# Altium schematic symbol library UWRT_Schematic_Library_2019.SchLib: 73 symbols
Pins are listed as number, name and electrical type; pins without a type are passive.

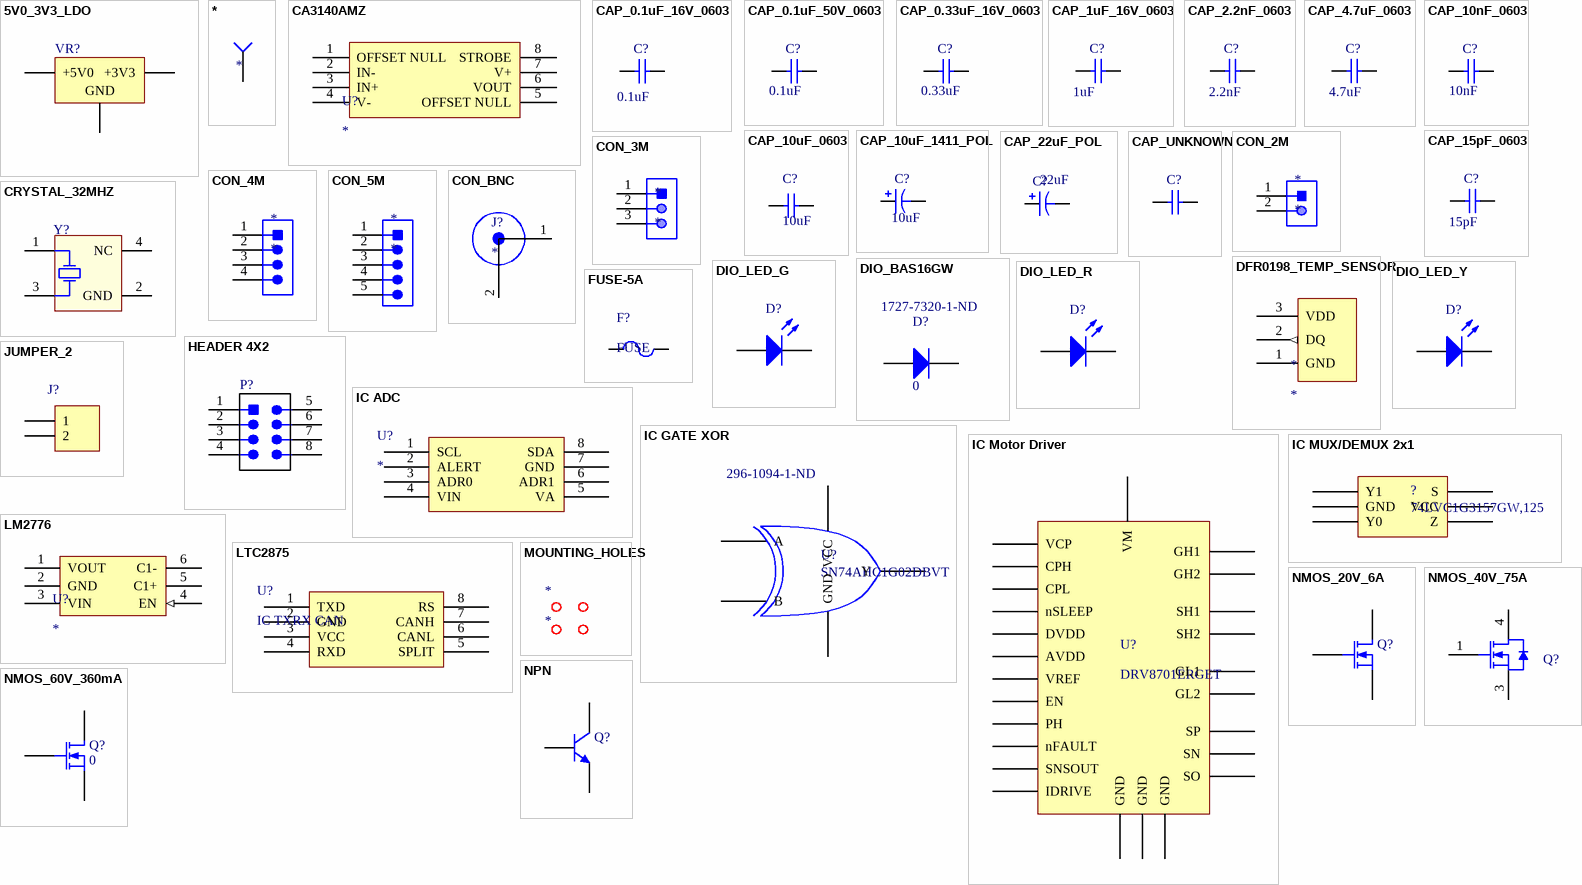
[diagram p0: symbols 5V0_3V3_LDO to NPN]

## 5V0_3V3_LDO
designator VR?
IC REG LINEAR 3.3V 1A DPAK; MPN: NCP1117DT33T5G; Manufacturer: ON Semiconductor; Current Output: 1A; Digikey Part Number: NCP1117DT33T5GOSCT-ND
footprint VOLTAGE_REGULATOR (DPAK, 3-Leads, Body 6.095x6.54mm, Pitch 4.57mm)
footprint D2PAK_L (D2-PAK, 4-Leads, Body 8.8x10.4mm, Pitch 2.54mm, Lead Span 15.1mm, IPC High Density)
footprint D2PAK_M (D2-PAK, 4-Leads, Body 8.8x10.4mm, Pitch 2.54mm, Lead Span 15.1mm, IPC Low Density)
pins: 1 GND, 2 +3V3, 3 +5V0

## *
designator TP?
TESTPOINT_SMD; Part Number (MPN): *
footprint TESTPOINT
footprint TESTPOINT_LOOP
pins: 1 =value

## CA3140AMZ
designator U?
4.5MHz, BiMOS Operational Amplifier with MOSFET Input/Bipolar Output; MPN: CA3140AMZ; Manufacturer: Renesas Electronics America Inc.; Digikey Part Number: CA3140AMZ-ND
footprint CA3140AMZ
pins: 1 OFFSET NULL, 2 IN-, 3 IN+, 4 V-, 5 OFFSET NULL, 6 VOUT, 7 V+, 8 STROBE

## CAP_0.1uF_16V_0603
designator C?  value 0.1uF
CAP CER 0.1UF 16V X7R 0603; MPN: CC0603KRX7R7BB104; Manufacturer: Yageo; Dimensions: 0.063" L x 0.031" W (1.60mm x 0.80mm); Package: 0603 (1608 Metric); Temperature Coefficient: X7R; Voltage Rating: 16V; Digikey Part Number: 311-1088-1-ND
footprint CAPC0603(1608)55_N (Chip Capacitor, Body 1.6x0.8mm, Height 0.55mm, IPC Medium Density)
simulation model CAP (Capacitor)
signal-integrity model Cap
pins: 1, 2

## CAP_0.1uF_50V_0603
designator C?  value 0.1uF
CAP CER 0.1UF 50V X7R 0603; MPN: CC0603KRX7R9BB104; Manufacturer: Yageo; Dimensions: 0.063" L x 0.031" W (1.60mm x 0.80mm); Package: 0603 (1608 Metric); Temperature Coefficient: X7R; Voltage Rating: 50V; Digikey Part Number: 311-1344-1-ND
footprint CAPC0603(1608)55_N (Chip Capacitor, Body 1.6x0.8mm, Height 0.55mm, IPC Medium Density)
simulation model CAP (Capacitor)
signal-integrity model Cap
pins: 1, 2

## CAP_0.33uF_16V_0603
designator C?  value 0.33uF
CAP CER 0.33UF 16V X7R 0603; MPN: GCM188R71C334KA37D; Manufacturer: Murata Electronics North America; Dimensions: 0.063" L x 0.031" W (1.60mm x 0.80mm); Package: 0603 (1608 Metric); Temperature Coefficient: X7R; Voltage Rating: 16V; Digikey Part Number: 490-6050-1-ND
footprint CAPC0603(1608)55_N (Chip Capacitor, Body 1.6x0.8mm, Height 0.55mm, IPC Medium Density)
simulation model CAP (Capacitor)
signal-integrity model Cap
pins: 1, 2

## CAP_1uF_16V_0603
designator C?  value 1uF
CAP CER 1UF 16V Y5V 0603; MPN: CC0603ZRY5V7BB105; Manufacturer: Yageo; Dimensions: 0.063" L x 0.031" W (1.60mm x 0.80mm); Package: 0603 (1608 Metric); Temperature Coefficient: Y5V; Voltage Rating: 16V; Digikey Part Number: 311-1372-1-ND
simulation model CAP (Capacitor)
signal-integrity model Cap
footprint CAPC0603(1608)55_N (Chip Capacitor, Body 1.6x0.8mm, Height 0.55mm, IPC Medium Density)
pins: 1, 2

## CAP_2.2nF_0603
designator C?  value 2.2nF
CAP CER 2.2NF 25V X7R 0603; MPN: CC0603KRX7R8BB222; Manufacturer: Yageo; Dimensions: 0.063" L x 0.031" W (1.60mm x 0.80mm); Package: 0603 (1608 Metric); Temperature Coefficient: X7R; Voltage Rating: 25V; Digikey Part Number: 311-3653-1-ND
footprint CAPC0603(1608)55_N (Chip Capacitor, Body 1.6x0.8mm, Height 0.55mm, IPC Medium Density)
simulation model CAP (Capacitor)
signal-integrity model Cap
pins: 1, 2

## CAP_4.7uF_0603
designator C?  value 4.7uF
CAP CER 4.7UF 6.3V X5R 0603; MPN: CC0603KRX5R5BB475; Manufacturer: Yageo; Dimensions: 0.063" L x 0.031" W (1.60mm x 0.80mm); Package: 0603 (1608 Metric); Temperature Coefficient: X5R; Voltage Rating: 6.3V; Digikey Part Number: 311-1521-1-ND
footprint CAPC0603(1608)55_N (Chip Capacitor, Body 1.6x0.8mm, Height 0.55mm, IPC Medium Density)
simulation model CAP (Capacitor)
signal-integrity model Cap
pins: 1, 2

## CAP_10nF_0603
designator C?  value 10nF
CAP CER 10000PF 16V X7R 0603; MPN: CC0603KRX7R7BB103; Manufacturer: Yageo; Dimensions: 0.063" L x 0.031" W (1.60mm x 0.80mm); Package: 0603 (1608 Metric); Temperature Coefficient: X7R; Voltage Rating: 16V; Digikey Part Number: 311-3369-1-ND
footprint CAPC0603(1608)55_N (Chip Capacitor, Body 1.6x0.8mm, Height 0.55mm, IPC Medium Density)
simulation model CAP (Capacitor)
signal-integrity model Cap
pins: 1, 2

## CAP_10uF_0603
designator C?, comment 10uF
CAP CER 10UF 10V X5R 0603; MPN: CC0603MRX5R6BB106; Manufacturer: Yageo; Dimensions: 0.063" L x 0.031" W (1.60mm x 0.80mm); Package: 0603 (1608 Metric); Voltage Rating: 10V; Digikey Part Number: 311-1817-1-ND; Value: 10uF
simulation model CAP (Capacitor)
signal-integrity model Cap
footprint CAPC0603(1608)55_N (Chip Capacitor, Body 1.6x0.8mm, Height 0.55mm, IPC Medium Density)
pins: 1, 2

## CAP_10uF_1411_POL
designator C?  value 10uF
CAP TANT 10UF 20% 10V 1411; MPN: F971A106MBAHT3; Manufacturer: AVX Corporation; Dimensions: 0.063" L x 0.031" W (1.60mm x 0.80mm); Package: 1411 (3528 Metric); Voltage Rating: 10V; Digikey Part Number: 478-12047-1-ND
simulation model CAP (Capacitor)
signal-integrity model Cap
footprint AVX-CAPC3528_V (SMT Capacitor, 2 Leads, Body 3.5x2.8mm)
pins: 1, 2

## CAP_15pF_0603
designator C?  value 15pF
CAP CER 15PF 250V NPO 0603; MPN: AC0603JRNPOYBN150; Manufacturer: Yageo; Temperature Coefficient: NP0; Dimensions: 0.063" L x 0.031" W (1.60mm x 0.80mm); Package: 0603 (1608 Metric); Voltage Rating: 250v; Digikey Part Number: 311-3282-1-ND
footprint CAPC0603(1608)55_N (Chip Capacitor, Body 1.6x0.8mm, Height 0.55mm, IPC Medium Density)
simulation model CAP (Capacitor)
signal-integrity model Cap
pins: 1, 2

## CAP_22uF_POL
designator C?  value 22uF
CAP ALUM 22UF 20% 50V RADIAL; Manufacturer: Wurth Electronics Inc.; MPN: 860020672011; Voltage Rating: 50V; Tolerance: 20%; Digikey Part Number: 732-8857-1-ND
footprint CAPR-2/4h6.8
simulation model CAP (Capacitor)
signal-integrity model Cap Pol
pins: 1, 2
1 alternate drawing of the same symbol

## CAP_UNKNOWN
designator C?
footprint CAPC0603(1608)55_N (Chip Capacitor, Body 1.6x0.8mm, Height 0.55mm, IPC Medium Density)
simulation model CAP (Capacitor)
signal-integrity model Cap
pins: 1, 2

## CON_2M
designator *
footprint JST-B2B-PHSK
footprint JST-B2B-SM4-TB
footprint JST-S2B-PHSK
footprint JST-S2B-SM4-TB
footprint HDR1X2 (Connector; Header; 2 Position)
pins: 1, 2

## CON_3M
designator *
footprint JST-B3B-SM4-TB
footprint JST-B3B-PHSK
footprint JST-S3B-SM4-TB
footprint JST-S3B-PHSK
pins: 1, 2, 3

## CON_4M
designator *
footprint JST-B4B-PHSK
footprint JST-B4B-SM4-TB
footprint JST-S4B-PHSK
footprint JST-S4B-SM4-TB
pins: 1, 2, 3, 4

## CON_5M
designator *
footprint JST-B5B-PHSK
footprint JST-B5B-SM4-TB
footprint JST-S5B-PHSK
footprint JST-S5B-SM4-TB
pins: 1, 2, 3, 4, 5

## CON_BNC
designator J?
Manufacturer: TE Connectivity; MPN: 1-1337543-0; Digikey Part Number: A97553-ND
footprint 1-1337543-0
pins: 1, 2

## CRYSTAL_32MHZ
designator Y?
CRYSTAL 32MHZ 8PF SMD; MPN: CX2520DB32000D0GPSC1; Manufacturer: Kyocera International Inc. Electronic Components; Package: 4-SMD, No Lead; Dimensions: 0.098" L x 0.079" W (2.50mm x 2.00mm); Digikey Part Number: 1253-1730-1-ND
footprint AVX-CX2520DB32000D0GEJZ1-4_V (Hand Drawn, 4-Leads,Body 2.5x2mm)
simulation model XTAL (Spice Subcircuit)
pins: 1 HOT, 2 GND (power), 3 HOT, 4 NC

## DFR0198_TEMP_SENSOR
designator *
pins: 1 GND (power), 2 DQ (out), 3 VDD (power)

## DIO_BAS16GW
designator D?, comment 0  Supplier Part Number 1: 1727-7320-1-ND
ESD PROTECTION DIODE; MPN: BAS16GW; Manufacturer: Nexperia; Package: SOD-123; ComponentLink1Description: Datasheet; ComponentLink1URL: https://assets.nexperia.com/documents/data-sheet/BAS16GW.pdf; Digikey Part Number: 1727-7320-1-ND; Supplier 1: Digi-Key
simulation model LED1 (Diode)
footprint DIODSOD-123 (SOD-123, 2-Leads, Body 2.85x1.7mm (max), Pitch 3.7mm)
pins: 1 A, 2 K

## DIO_LED_G
designator D?
LED GREEN DIFFUSED 0805 SMD; MPN: LG R971-KN-1; Manufacturer: OSRAM; Forward Voltage Drop: 2.2V; Package: 0805 (2012 Metric); Digikey Part Number: 475-1410-1-ND
footprint LED_0805_LINE (SMD, 2-Leads, Body 2x1.25mm)
simulation model LED1 (Diode)
pins: 1 A, 2 K

## DIO_LED_R
designator D?
LED RED DIFFUSED 0805 SMD; MPN: LS R976-NR-1; Manufacturer: OSRAM; Forward Voltage Drop: 2V; Package: 0805 (2012 Metric); Digikey Part Number: 475-1278-1-ND
footprint LED_0805_LINE (SMD, 2-Leads, Body 2x1.25mm)
simulation model LED1 (Diode)
pins: 1 A, 2 K

## DIO_LED_Y
designator D?
LED YELLOW DIFFUSED 0805 SMD; MPN: LY R976-PS-36; Manufacturer: OSRAM; Forward Voltage Drop: 2.2V; Package: 0805 (2012 Metric); Digikey Part Number: 475-2560-1-ND
footprint LED_0805_LINE (SMD, 2-Leads, Body 2x1.25mm)
simulation model LED1 (Diode)
pins: 1 A, 2 K

## FUSE-5A
designator F?, comment FUSE
FUSE HOLDER RADIAL 250V 6.3A PCB
footprint FUSE (FUSE HOLDER RADIAL 250V 6.3A PCB)
pins: 1, 2

## HEADER 4X2
designator P?
Header, 4-Pin Dual row; MPN: GRPB042VWVN-RC; Manufacturer: Sullins Connector Solutions; Digikey Part Number: S9015E-04-ND
signal-integrity model Connector
footprint HEADER_2X4
pins: 1 VCC, 2, 3, 4, 5 GND, 6 2, 7 3, 8 4

## IC ADC
designator U?
IC ADC 8BIT I2C 188KSPS; Manufacturer: Texas Instruments; MPN: ADC081C021CIMM/NOPB; Package: 8-TSSOP, 8-MSOP (0.118", 3.00mm Width); Digikey Part Number: ADC081C021CIMM/NOPBCT-ND
pins: 1 SCL, 2 ALERT, 3 ADR0, 4 VIN, 5 VA, 6 ADR1, 7 GND, 8 SDA

## IC GATE XOR
designator U?, comment SN74AHC1G02DBVT  Supplier Part Number 1: 296-1094-1-ND
Manufacturer: Texas Instruments; Max Supply Voltage: 5.5V; Min Supply Voltage: 2V; Logic Function: NOR; Quiescent Current: 1uA; Propagation Delay: 7.5ns; Number of Outputs: 1; Number of Inputs: 2; Low Level Output Current: 8mA; High Level Output Current: -8mA; Turn-On Delay Time: 8.5ns; Manufacturer Part Number: SN74AHC1G02DBVT; Mount: Surface Mount; Case/Package: SOT-23; Number of Pins: 5; Weight: 0.000557oz; Min Operating Temperature: -40°C; Max Operating Temperature: 125°C; Packaging: Tape and Reel; Package Quantity: 250; Number of Gates: 1; Number of Input Lines: 2; Number of Output Lines: 1; Number of Circuits: 1; Number of Elements: 1; Number of Bits: 1; Output Current: 8mA; Max Output Current: 8mA; Termination: SMD/SMT; Radiation Hardening: No; Lead Free: Lead Free; REACH SVHC: No SVHC; ComponentLink1URL: http://www.ti.com/lit/ds/symlink/sn74ahc1g02.pdf?src-supplier=Digi-Key; ComponentLink1Description: http://www.ti.com/lit/ds/symlink/sn74ahc1g02.pdf?src-supplier=Digi-Key; ComponentLink2URL: http://focus.ti.com/lit/ds/symlink/sn74ahc1g02.pdf?src-supplier=Avnet+Europe; ComponentLink2Description: http://focus.ti.com/lit/ds/symlink/sn74ahc1g02.pdf?src-supplier=Avnet+Europe; ComponentLink3URL: http://www.farnell.com/datasheets/1786933.pdf?src-supplier=Element14; ComponentLink3Description: http://www.farnell.com/datasheets/1786933.pdf?src-supplier=Element14; Supplier 1: Digi-Key
footprint SOT23-5
pins: 1 A, 2 B, 3 GND, 4 Y, 5 VCC

## IC Motor Driver
designator U?, comment DRV8701ERGET
Manufacturer: Texas Instruments; Interface: Parallel; Supplier 1: Digi-Key; Manufacturer Part Number: DRV8701ERGET; Stock 1: 17098; Pricing 1: 1=2.83, 10=2.541, 100=2.0425 (USD); Mount: Surface Mount; Case/Package: VQFN; Min Operating Temperature: -40°C; Max Operating Temperature: 125°C; Packaging: Tape and Reel; Lead Free: Lead Free; Supplier Part Number 1: 296-42155-1-ND
footprint VFQFPN-24_N (QFN, 24-Leads, Body 4x4mm, Pitch 0.5mm, Thermal Pad 2.5x2.5mm, IPC Medium Density)
pins: 1 VM, 2 VCP, 3 CPH, 4 CPL, 5 GND, 6 VREF, 7 AVDD, 8 DVDD, 9 nFAULT, 10 SNSOUT, 11 SO, 12 IDRIVE, 13 nSLEEP, 14 EN, 15 PH, 16 GND, 17 GH1, 18 SH1, 19 GL1, 20 SN, 21 SP, 22 GL2, 23 SH2, 24 GH2, 25 GND

## IC MUX/DEMUX 2x1
designator ?, comment 74LVC1G3157GW,125
Manufacturer: NXP Semiconductors; Min Supply Voltage: 1.65V; Max Supply Voltage: 5.5V; Number of Channels: 1; Bandwidth: 300MHz; Propagation Delay: 1ns; Max Power Dissipation: 250mW; On-State Resistance: 15R; Turn-On Delay Time: 8.7ns; Turn-Off Delay Time: 6ns; Operating Supply Current: 40uA; Number of Inputs: 2; Logic Function: Demultiplexer,Demux,Multiplexer,Mux; Supply Type: Single; Supplier 1: Digi-Key; Manufacturer Part Number: 74LVC1G3157GW,125; Stock 1: 109219; Pricing 1: 1=0.37, 10=0.276, 100=0.156, 500=0.10332, 1000=0.07921 (USD); Mount: Surface Mount; Case/Package: TSSOP; Number of Pins: 6; Min Operating Temperature: -40°C; Max Operating Temperature: 125°C; Packaging: Tape and Reel; Package Quantity: 3000; Number of Outputs: 1; Power Dissipation: 250mW; Number of Circuits: 1; Radiation Hardening: No; Lead Free: Lead Free; REACH SVHC: No SVHC; ComponentLink1URL: http://www.nxp.com/documents/data_sheet/74LVC1G3157.pdf?src-supplier=Avnet; ComponentLink1Description: http://www.nxp.com/documents/data_sheet/74LVC1G3157.pdf?src-supplier=Avnet; ComponentLink2URL: https://www.verical.com/server-webapp/html/getDatasheet?partID=347929&src-supplier=Verical; ComponentLink2Description: https://www.verical.com/server-webapp/html/getDatasheet?partID=347929&src-supplier=Verical; ComponentLink3URL: http://www.nxp.com/documents/data_sheet/74LVC1G3157.pdf?src-supplier=Avnet+Asia; ComponentLink3Description: http://www.nxp.com/documents/data_sheet/74LVC1G3157.pdf?src-supplier=Avnet+Asia; ComponentLink4URL: http://www.nxp.com/documents/data_sheet/74LVC1G3157.pdf?src-supplier=Digi-Key; ComponentLink4Description: http://www.nxp.com/documents/data_sheet/74LVC1G3157.pdf?src-supplier=Digi-Key; ComponentLink5URL: http://www.nxp.com/documents/data_sheet/74LVC1G3157.pdf?src-supplier=Avnet+Europe; ComponentLink5Description: http://www.nxp.com/documents/data_sheet/74LVC1G3157.pdf?src-supplier=Avnet+Europe; Supplier Part Number 1: 1727-6073-6-ND
footprint IC MUX/DEMUX
pins: 1 Y1, 2 GND, 3 Y0, 4 Z, 5 VCC, 6 S

## JUMPER_2
designator J?
HEADER 2X1
footprint HDR1X2 (Connector; Header; 2 Position)
pins: 1, 2

## LM2776
designator U?
LM2776 Switched Capacitor Inverter; MPN: LM2776DBVR; Manufacturer: Texas Instruments; Digikey Part Number: 296-43957-1-ND
footprint SOT23-6 (SOT23, 6-Leads, Body 3.05x1.75mm, Pitch 0.95mm, IPC Medium Density)
pins: 1 VOUT (power), 2 GND, 3 VIN (power), 4 EN (in), 5 C1+ (power), 6 C1- (power)

## LTC2875
designator U?, comment IC TXRX CAN
IC TXRX CAN 4MBPS 8SO; Manufacturer: Linear Technologies; MPN: LTC2875IS8#PBF; Package: 8-SOIC (0.154", 3.90mm Width); ComponentLink1Description: Datasheet; ComponentLink1URL: https://www.analog.com/media/en/technical-documentation/data-sheets/2875f.pdf; Digikey Part Number: LTC2875IS8#PBF-ND
footprint LTC2875 (SOIC, 8-Leads, Body 5x4mm, Pitch 1.27mm, IPC Low Density)
footprint LT-S8_N (SOP, 8-Leads, Body 4.9x3.9mm, Pitch 1.27mm, IPC Medium Density)
pins: 1 TXD, 2 GND, 3 VCC, 4 RXD, 5 SPLIT, 6 CANL, 7 CANH, 8 RS

## MOUNTING_HOLES
designator *
6cm x 6cm
footprint MOUNTING_HOLE

## NMOS_20V_6A
designator Q?
MOSFET N-CH 20V 6A SOT23; MPN: AO3420; Manufacturer: Alpha & Omega; Package: TO-236-3, SC-59, SOT-23-3; ComponentLink1Description: Datasheet; ComponentLink1URL: http://aosmd.com/res/data_sheets/AO3420.pdf; Digikey Part Number: 785-1014-1-ND
footprint E3 (TO, Flat Index; 3 In-Line, Axial Leads; Body Dia. 4.6mm; Lead Dia. 0.5 mm (max))
simulation model NMOS (MOSFET-N)
pins: 1 D, 2 G, 3 S

## NMOS_40V_75A
designator Q?
MOSFET N-CH 40V 75A D2PAK; MPN: BUK768R1-40E,118; Manufacturer: Nexperia USA Inc.; Package: TO-263-3, D²Pak (2 Leads + Tab), TO-263AB; ComponentLink1Description: Datasheet; ComponentLink1URL: http://aosmd.com/res/data_sheets/AO3420.pdf; Digikey Part Number: 1727-7257-1-ND; Supplier 1: Digi-Key; Supplier Part Number 1: 1727-7255-1-ND
simulation model NMOS (MOSFET-N)
footprint SOT404
pins: 1 G "gate", 3 S "source", 4 D "mounting base; connected to drain"

## NMOS_60V_360mA
designator Q?, comment 0
MOSFET N-CH 60V 0.36A SOT-23; Part Number: 2N7002P,215; Manufacturer: Nexperia USA Inc.; Package: TO-236-3, SC-59, SOT-23-3; ComponentLink1Description: Datasheet; ComponentLink1URL: http://aosmd.com/res/data_sheets/AO3420.pdf; Digikey Part Number: 1727-4692-1-ND
footprint E3 (TO, Flat Index; 3 In-Line, Axial Leads; Body Dia. 4.6mm; Lead Dia. 0.5 mm (max))
simulation model NMOS (MOSFET-N)
pins: 1 D, 2 G, 3 S

## NPN
designator Q?
footprint TO-226-AA (TO, Flat Index; 3 In-Line, Axial Leads; Body Dia. 4.8mm; Leads 0.55 x 0.51 mm (max))
simulation model NPN
signal-integrity model NPN
pins: 1 C, 2 B, 3 E

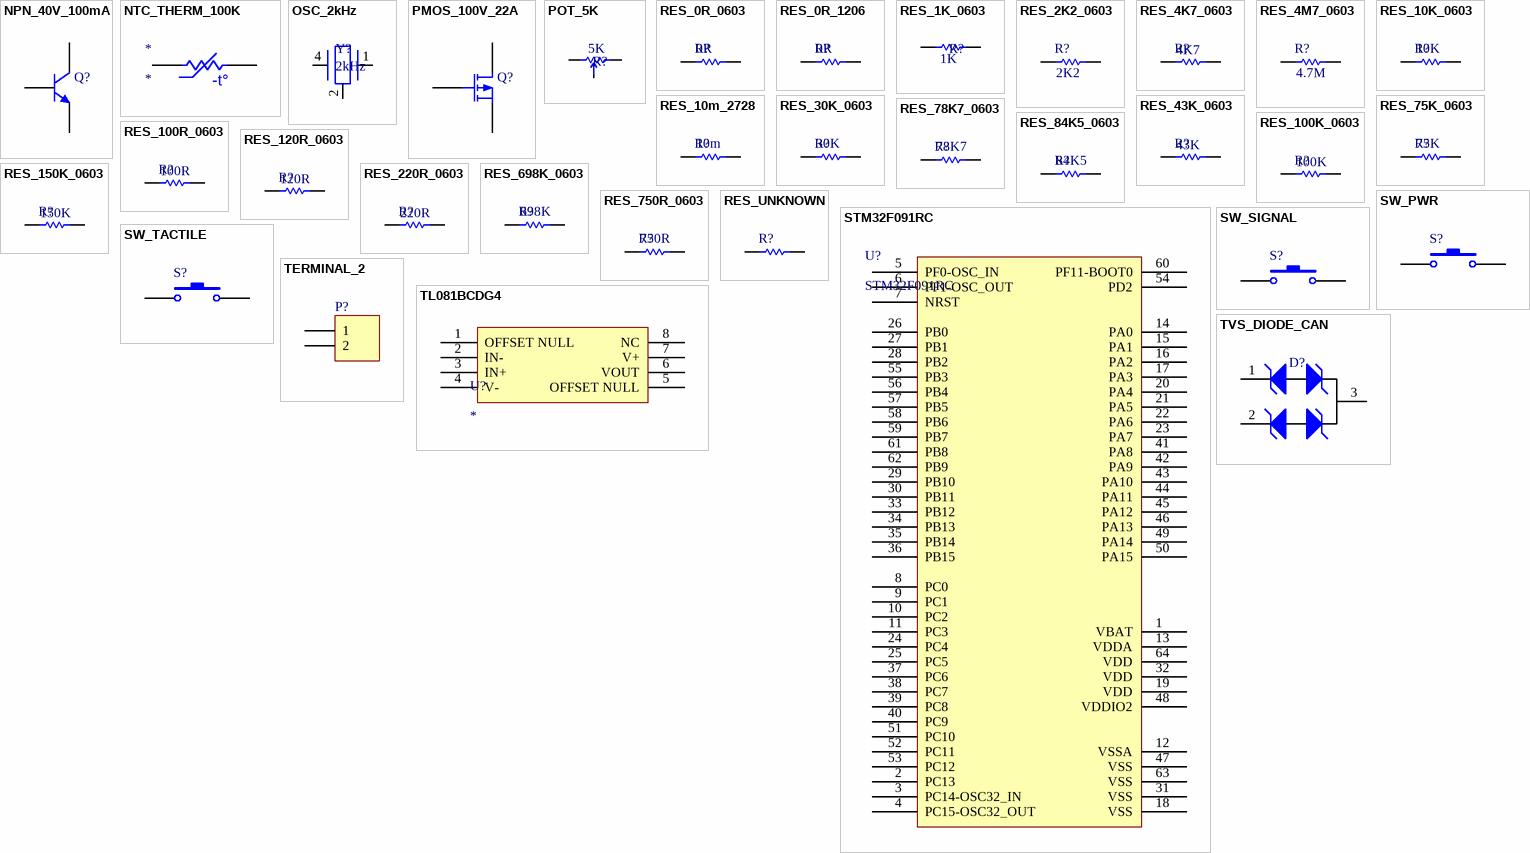
[diagram p1: symbols NPN_40V_100mA to TVS_DIODE_CAN]

## NPN_40V_100mA
designator Q?
TRANS NPN 40V 0.2A SOT23; Manufacturer: Micro Commercial Co; MPN: MMBT3904-TP; Package: TO-236-3, SC-59, SOT-23-3; ComponentLink1Description: Datasheet; ComponentLink1URL: http://www.mccsemi.com/up_pdf/MMBT3904(SOT-23).pdf; Digikey Part Number: MMBT3904TPMSCT-ND
simulation model NPN
signal-integrity model NPN
footprint SOT23-3 (SOT23, 3-Leads, Body 2.90x2.30mm, Pitch 0.95mm, IPC Medium Density)
pins: 1 B, 2 E, 3 C

## NTC_THERM_100K
designator *
THERM NTC 100KOHM 4700K 0603; MPN: ERT-J1VV104J; Manufacturer: Panasonic; Value: 100K; Digikey Part Number: P10555CT-ND
footprint RESC0603(1608)_N (Chip Resistor, Body 1.6x0.8mm, IPC Medium Density)
pins: 1, 2
text: -t°

## OSC_2kHz
designator Y?, comment 2kHz
OSCILLATOR_2kHz; Supplier 1: Digi-Key; Supplier Part Number 1: DSC6083CI2A-002K000-ND
footprint CDFN-4
pins: 1 OUT, 2 GND, 4 VDD

## PMOS_100V_22A
designator Q?
MOSFET P-CH 100V 22A D2PAK; MPN: FQB22P10TM; Manufacturer: ON Semiconductor; Digikey Part Number: FQB22P10TMCT-ND; Package: D2PAK (TO-263AB); ComponentLink1Description: Datasheet; ComponentLink1URL: https://www.onsemi.com/pub/Collateral/FQB22P10TM_F085-D.PDF
footprint ONSC-TO-263-2L_N (DPAK, 3-Leads, Body 10.2x9.4mm, Pitch 2.54mm, IPC Medium Density)
simulation model PMOS (MOSFET-P)
pins: 1 D, 2 G, 3 S

## POT_5K
designator R?  value 5K
TRIMMER 5K OHM 0.5W PC PIN TOP; MPN: 3362P-1-502LF; Manufacturer: Bourns Inc.; Tolerance: 10%; Dimensions: 0.275" x 0.260" Face x 0.185" H (6.99mm x 6.60mm x 4.70mm); Digikey Part Number: 3362P-502LF-ND
signal-integrity model Res
footprint 3362P-1-502LF
pins: 1, 2, 3

## RES_0R_0603
designator R?  value 0R
RES SMD 0 OHM JUMPER 1/10W 0603; Manufacturer: Yageo; MPN: RC0603JR-070RL; Package: 0603 (1608 Metric); Dimensions: 0.063" L x 0.031" W (1.60mm x 0.80mm); Digikey Part Number: 311-0.0GRCT-ND
footprint RESC0603(1608)_N (Chip Resistor, Body 1.6x0.8mm, IPC Medium Density)
simulation model RESISTOR (Resistor)
signal-integrity model Res
pins: 1, 2

## RES_0R_1206
designator R?  value 0R
RES SMD 0 OHM JUMPER 1/10W 1206; Manufacturer: Yageo; MPN: RC1206JR-070RL; Package: 1206 (3216 Metric); Dimensions: 0.063" L x 0.031" W (1.60mm x 0.80mm); Digikey Part Number: 311-0.0ERCT-ND
simulation model RESISTOR (Resistor)
signal-integrity model Res
footprint Model Name (Footprint not found)
footprint RESC1206(3216)_N (Chip Resistor, Body 3.2x1.6mm, IPC Medium Density)
pins: 1, 2

## RES_1K_0603
designator R?  value 1K
RES SMD 1K OHM 5% 1/10W 0603; Manufacturer: Yageo; MPN: RC0603JR-071KL; Dimensions: 0.063" L x 0.031" W (1.60mm x 0.80mm); Tolerance: 5%; Package: 0603 (1608 Metric); Digikey Part Number: 311-1.0KGRCT-ND
footprint RESC0603(1608)_N (Chip Resistor, Body 1.6x0.8mm, IPC Medium Density)
simulation model RESISTOR (Resistor)
signal-integrity model Res
pins: 1, 2

## RES_2K2_0603
designator R?  value 2K2
RES SMD 2.2K OHM 1% 1/10W 0603; Manufacturer: Yageo; MPN: RC0603FR-072K2L; Dimensions: 0.063" L x 0.031" W (1.60mm x 0.80mm); Package: 0603 (1608 Metric); Tolerance: 1%; Digikey Part Number: 311-2.20KHRCT-ND
footprint RESC0603(1608)_N (Chip Resistor, Body 1.6x0.8mm, IPC Medium Density)
simulation model RESISTOR (Resistor)
signal-integrity model Res
pins: 1, 2

## RES_4K7_0603
designator R?  value 4K7
RES SMD 4.7K OHM 5% 1/10W 0603; Manufacturer: Yageo; MPN: RC0603JR-074K7L; Package: 0603 (1608 Metric); Dimensions: 0.063" L x 0.031" W (1.60mm x 0.80mm); Tolerance: 5%; Digikey Part Number: 311-4.7KGRCT-ND
footprint RESC0603(1608)_N (Chip Resistor, Body 1.6x0.8mm, IPC Medium Density)
simulation model RESISTOR (Resistor)
signal-integrity model Res
pins: 1, 2

## RES_4M7_0603
designator R?  value 4.7M
RES SMD 4.7M OHM 1% 1/10W 0603; MPN: RC0603FR-074M7L; Manufacturer: Yageo; Package: 0603 (1608 Metric); Dimensions: 0.063" L x 0.031" W (1.60mm x 0.80mm); Tolerance: 1%; Digikey Part Number: 311-4.70MHRCT-ND
footprint RESC0603(1608)_N (Chip Resistor, Body 1.6x0.8mm, IPC Medium Density)
simulation model RESISTOR (Resistor)
signal-integrity model Res
pins: 1, 2

## RES_10K_0603
designator R?  value 10K
RES SMD 10K OHM 5% 1/10W 0603; Manufacturer: Yageo; MPN: RC0603JR-0710KL; Package: 0603 (1608 Metric); Dimensions: 0.063" L x 0.031" W (1.60mm x 0.80mm); Tolerance: 5%; Digikey Part Number: 311-10KGRCT-ND
footprint RESC0603(1608)_N (Chip Resistor, Body 1.6x0.8mm, IPC Medium Density)
simulation model RESISTOR (Resistor)
signal-integrity model Res
pins: 1, 2

## RES_10m_2728
designator R?  value 10m
RES SMD 10mOHM 1% 4W 2728; Manufacturer: Yageo; MPN: RC0603FR-07698KL; Package: 0603 (1608 Metric); Dimensions: 0.063" L x 0.031" W (1.60mm x 0.80mm); Tolerance: 1%; Supplier 1: Digi-Key; Digikey Part Number: CSSH2728FT10L0DKR-ND
simulation model RESISTOR (Resistor)
signal-integrity model Res
footprint STAC-CSS2725-099H_V (Chip Resistor, 2-Leads, Body 7.06x6.7mm)
pins: 1, 2

## RES_30K_0603
designator R?  value 30K
RES SMD 30K OHM 0.5% 1/10W 0603; Manufacturer: Yageo; MPN: RT0603DRD0730KL; Package: 0603 (1608 Metric); Dimensions: 0.063" L x 0.031" W (1.60mm x 0.80mm); Tolerance: 0.5%; Digikey Part Number: 311-30KDCT-ND
footprint RESC0603(1608)_N (Chip Resistor, Body 1.6x0.8mm, IPC Medium Density)
simulation model RESISTOR (Resistor)
signal-integrity model Res
pins: 1, 2

## RES_43K_0603
designator R?  value 43K
RES SMD 43K OHM 5% 1/10W 0603; Manufacturer: Yageo; MPN: RC0603JR-0743KL; Package: 0603 (1608 Metric); Dimensions: 0.063" L x 0.031" W (1.60mm x 0.80mm); Tolerance: 5%; Digikey Part Number: 311-43KGRCT-ND
footprint RESC0603(1608)_N (Chip Resistor, Body 1.6x0.8mm, IPC Medium Density)
simulation model RESISTOR (Resistor)
signal-integrity model Res
pins: 1, 2

## RES_75K_0603
designator R?  value 75K
RES SMD 75K OHM 0.5% 1/10W 0603; Manufacturer: Yageo; MPN: RT0603DRD0775KL; Package: 0603 (1608 Metric); Dimensions: 0.063" L x 0.031" W (1.60mm x 0.80mm); Tolerance: 0.5%; Digikey Part Number: 311-75KDCT-ND
footprint RESC0603(1608)_N (Chip Resistor, Body 1.6x0.8mm, IPC Medium Density)
simulation model RESISTOR (Resistor)
signal-integrity model Res
pins: 1, 2

## RES_78K7_0603
designator R?  value 78K7
RES SMD 78.7K OHM 1% 1/10W 0603; Manufacturer: Yageo; MPN: RC0603FR-0778K7L; Tolerance: 5%; Package: 0603 (1608 Metric); Dimensions: 0.063" L x 0.031" W (1.60mm x 0.80mm); Digikey Part Number: 311-78.7KHRCT-ND
footprint RESC0603(1608)_N (Chip Resistor, Body 1.6x0.8mm, IPC Medium Density)
simulation model RESISTOR (Resistor)
signal-integrity model Res
pins: 1, 2

## RES_84K5_0603
designator R?  value 84K5
RES SMD 84.5K OHM 1% 1/10W 0603; Manufacturer: Yageo; MPN: RC0603FR-0784K5L; Package: 0603 (1608 Metric); Dimensions: 0.063" L x 0.031" W (1.60mm x 0.80mm); Tolerance: 1%; Digikey Part Number: 311-84.5KHRCT-ND
footprint RESC0603(1608)_N (Chip Resistor, Body 1.6x0.8mm, IPC Medium Density)
simulation model RESISTOR (Resistor)
signal-integrity model Res
pins: 1, 2

## RES_100K_0603
designator R?  value 100K
RES SMD 100K OHM 5% 1/10W 0603; Manufacturer: Yageo; MPN: RC0603FR-07261KL; Package: 0603 (1608 Metric); Dimensions: 0.063" L x 0.031" W (1.60mm x 0.80mm); Tolerance: 5%; Digikey Part Number: 311-261KHRCT-ND
footprint RESC0603(1608)_N (Chip Resistor, Body 1.6x0.8mm, IPC Medium Density)
simulation model RESISTOR (Resistor)
signal-integrity model Res
pins: 1, 2

## RES_100R_0603
designator R?  value 100R
RES SMD 100 OHM 1% 1/10W 0603; Manufacturer: Yageo; MPN: RC0603FR-07100RL; Package: 0603 (1608 Metric); Dimensions: 0.063" L x 0.031" W (1.60mm x 0.80mm); Tolerance: 1%; Digikey Part Number: 311-100HRCT-ND
footprint RESC0603(1608)_N (Chip Resistor, Body 1.6x0.8mm, IPC Medium Density)
simulation model RESISTOR (Resistor)
signal-integrity model Res
pins: 1, 2

## RES_120R_0603
designator R?  value 120R
RES SMD 120 OHM 5% 1/10W 0603; Manufacturer: Yageo; MPN: RC0603JR-07120RL; Package: 0603 (1608 Metric); Dimensions: 0.063" L x 0.031" W (1.60mm x 0.80mm); Tolerance: 5%; Digikey Part Number: 311-120GRCT-ND
footprint RESC0603(1608)_N (Chip Resistor, Body 1.6x0.8mm, IPC Medium Density)
simulation model RESISTOR (Resistor)
signal-integrity model Res
pins: 1, 2

## RES_150K_0603
designator R?  value 150K
RES SMD 150K OHM 5% 1/10W 0603; Manufacturer: Yageo; MPN: RC0603JR-07150KL; Package: 0603 (1608 Metric); Dimensions: 0.063" L x 0.031" W (1.60mm x 0.80mm); Tolerance: 5%; Digikey Part Number: 311-150KGRCT-ND
footprint RESC0603(1608)_N (Chip Resistor, Body 1.6x0.8mm, IPC Medium Density)
simulation model RESISTOR (Resistor)
signal-integrity model Res
pins: 1, 2

## RES_220R_0603
designator R?  value 220R
RES SMD 220 OHM 5% 1/10W 0603; Manufacturer: Yageo; MPN: AC0603JR-07220RL; Package: 0603 (1608 Metric); Dimensions: 0.063" L x 0.031" W (1.60mm x 0.80mm); Tolerance: 5%; Digikey Part Number: YAG3652CT-ND
footprint RESC0603(1608)_N (Chip Resistor, Body 1.6x0.8mm, IPC Medium Density)
simulation model RESISTOR (Resistor)
signal-integrity model Res
pins: 1, 2

## RES_698K_0603
designator R?  value 698K
RES SMD 698K OHM 1% 1/10W 0603; Manufacturer: Yageo; MPN: RC0603FR-07698KL; Package: 0603 (1608 Metric); Dimensions: 0.063" L x 0.031" W (1.60mm x 0.80mm); Tolerance: 1%; Digikey Part Number: 311-698KHRCT-ND
footprint RESC0603(1608)_N (Chip Resistor, Body 1.6x0.8mm, IPC Medium Density)
simulation model RESISTOR (Resistor)
signal-integrity model Res
pins: 1, 2

## RES_750R_0603
designator R?  value 750R
RES SMD 78.7K OHM 1% 1/10W 0603; Manufacturer: Yageo; MPN: RC0603JR-07750RL; Tolerance: 5%; Package: 0603 (1608 Metric); Dimensions: 0.063" L x 0.031" W (1.60mm x 0.80mm); Digikey Part Number: 311-750GRCT-ND
footprint RESC0603(1608)_N (Chip Resistor, Body 1.6x0.8mm, IPC Medium Density)
simulation model RESISTOR (Resistor)
signal-integrity model Res
pins: 1, 2

## RES_UNKNOWN
designator R?
footprint RESC0603(1608)_N (Chip Resistor, Body 1.6x0.8mm, IPC Medium Density)
simulation model RESISTOR (Resistor)
signal-integrity model Res
pins: 1, 2

## STM32F091RC
designator U?
Manufacturer: STMicroelectronics; MPN: STM32F091RC; Package: 64-LQFP; ComponentLink1Description: Datasheet; ComponentLink1URL: https://www.st.com/content/ccc/resource/technical/document/datasheet/95/3c/2e/5b/21/09/45/a6/DM00115237.pdf/files/DM00115237.pdf/jcr:content/translations/en.DM00115237.pdf#%5B%7B%22num%22%3A96%2C%22gen%22%3A0%7D%2C%7B%22name%22%3A%22XYZ%22%7D%2C67%2C755%2Cnull%5D; Digikey Part Number: 497-15167-ND
footprint STM_LQFP64_N (Thin QFP, 64-Leads, Body 10x10mm, Pitch 0.5mm, IPC Medium Density)
pins: 1 VBAT, 2 PC13, 3 PC14-OSC32_IN, 4 PC15-OSC32_OUT, 5 PF0-OSC_IN, 6 PF1-OSC_OUT, 7 NRST, 8 PC0, 9 PC1, 10 PC2, 11 PC3, 12 VSSA, 13 VDDA, 14 PA0, 15 PA1, 16 PA2, 17 PA3, 18 VSS, 19 VDD, 20 PA4, 21 PA5, 22 PA6, 23 PA7, 24 PC4, 25 PC5, 26 PB0, 27 PB1, 28 PB2, 29 PB10, 30 PB11, 31 VSS, 32 VDD, 33 PB12, 34 PB13, 35 PB14, 36 PB15, 37 PC6, 38 PC7, 39 PC8, 40 PC9, 41 PA8, 42 PA9, 43 PA10, 44 PA11, 45 PA12, 46 PA13, 47 VSS, 48 VDDIO2, 49 PA14, 50 PA15, 51 PC10, 52 PC11, 53 PC12, 54 PD2, 55 PB3, 56 PB4, 57 PB5, 58 PB6, 59 PB7, 60 PF11-BOOT0, 61 PB8, 62 PB9, 63 VSS, 64 VDD

## SW_PWR
designator S?
Power Switch (Red); MPN: PTS830GM140 SMTR LFS; Manufacturer: C&K; ComponentLink1Description: Datasheet; ComponentLink1URL: https://www.ckswitches.com/media/1478/pts830.pdf; Digikey Part Number: CKN10587CT-ND
footprint PTS830GM140 (PWR TACTILE SWITCH (RED)); pin to pad 2>4
pins: 1, 2

## SW_SIGNAL
designator S?
Tactile Switch (Grey); MPN: B3U-1100P; Manufacturer: Omron Electronics Inc-EMC Div; Digikey Part Number: SW1021TR-ND
footprint B3U-1100P (TACTILE SWITCH GREY)
pins: 1, 2

## SW_TACTILE
designator S?
Tactile Switch (Grey); MPN: B3U-1100P; Manufacturer: Omron Electronics Inc-EMC Div; Digikey Part Number: SW1021TR-ND
footprint B3U-1100P (TACTILE SWITCH GREY)
pins: 1, 2

## TERMINAL_2
designator P?
Header, 2-Pin; MPN: OSTYK51102030; Manufacturer: On Shore Technology Inc.; Digikey Part Number: ED2953-ND
signal-integrity model Connector
footprint OSTYK51102030 (Connector; Header; 2 Position)
pins: 1, 2

## TL081BCDG4
designator U?
IC OPAMP JFET 3MHZ 8SOIC; MPN: TL081BCD; Manufacturer: Texas Instruments; Digikey Part Number: 296-34259-5-ND
footprint TL081BCDG4
pins: 1 OFFSET NULL, 2 IN-, 3 IN+, 4 V-, 5 OFFSET NULL, 6 VOUT, 7 V+, 8 NC

## TVS_DIODE_CAN
designator D?
TVS DIODE 24V 41V SOT323-3; MPN: PESD2CAN,215; Manufacturer: Nexperia USA Inc.; Package: SC-70, SOT-323; ComponentLink1Description: Datasheet; ComponentLink1URL: https://assets.nexperia.com/documents/data-sheet/PESD1CAN-U.pdf; Digikey Part Number: 1727-3891-1-ND
footprint NXP-SOT323-3 (SOT23, 3-Leads, Body 2.2x1.35mm, Pitch 0.65mm)
pins: 1, 2, 3